# Altium schematic symbol library OPTO-AKNECB-6.SchLib: 1 symbol
Pins are listed as number, name and electrical type; pins without a type are passive.

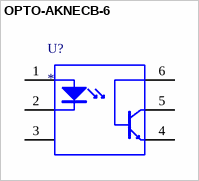
[diagram p0: symbol OPTO-AKNECB-6]

## OPTO-AKNECB-6
designator U?
pins: 1 A, 2 C, 3 NC, 4 E, 5 C, 6 B